# Altium footprint library libx.PcbLib: 18 footprints (part 2 of 2)
Each footprint in its own frame and in the unit in brackets; x right, y up, seen from the top. Pads: shape width x height; smd on the part's side, far side on the other; paste and mask are expansions set on the pad; w line width, h text height; cw(c..) or ccw(c..) is an arc to the next point about the centre after c.
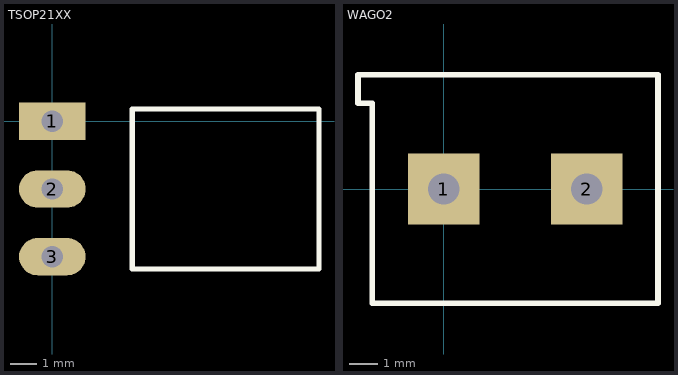
[diagram p1: the footprints below, top view; thin cyan lines are the x and y axes]

## TSOP21XX [mm]
pads (3):
  rect 2.5x1.4 hole 0.8: 1(0,0)
  oval 2.5x1.4 hole 0.8: 2(0,-2.54) 3(0,-5.08)
Top Overlay:
  lines w0.2: 3,-5.54 10,-5.54 10,0.46 3,0.46 3,-5.54

## WAGO2 [mm]
pads (2):
  rect 2.5x2.5 hole 1.1: 1(0,0) 2(5,0)
Top Overlay:
  lines w0.2: -3,3 -3,4 7.5,4 7.5,-4 -2.5,-4 -2.5,-2 -2.5,3 -3,3